# Altium schematic symbol library switch_6c.SchLib: 1 symbol
Pins are listed as number, name and electrical type; pins without a type are passive.

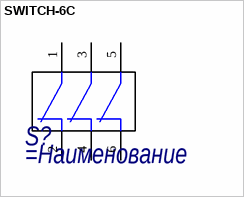
[diagram p0: symbol SWITCH-6C]

## SWITCH-6C
designator S?
=Описание
pins: 1, 2, 3, 4, 5, 6